# Altium schematic symbol library IDC-2X3.Schlib: 1 symbol
Pins are listed as number, name and electrical type; pins without a type are passive.

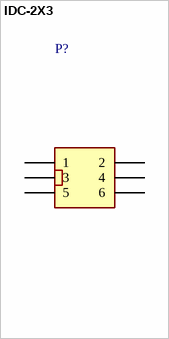
[diagram p0: symbol IDC-2X3]

## IDC-2X3
designator P?
2X3 IDC Connector
pins: 1, 2, 3, 4, 5, 6